# EAGLE library part NRJ6HF (library _mtvl.connectors)
Neutrik NRJ6HF Created by Nils Hintze <n.hintze@elektronikpage.net>
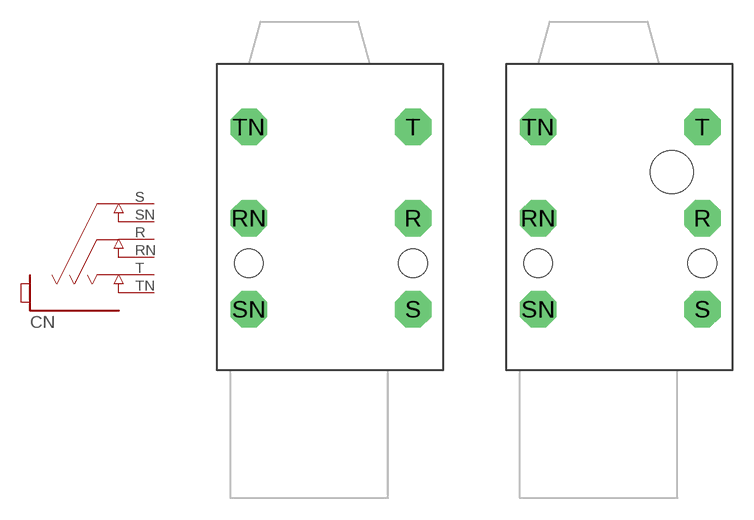
[diagram p25: symbol with the pads of NRJ6HF___; footprints NRJ6HF___, NRJ6HF_HOLE]

Designator prefix CN

## NRJ6HF  [NRJ6HF___]
R  R  pas
RN  RN  pas
S  S  pas
SN  SN  pas
T  T  pas
TN  TN  pas

## NRJ6HF_HOLE  [NRJ6HF_HOLE]
Pads as for NRJ6HF___

## Footprint NRJ6HF___ (pad centres in mm)
Neutrik NRJ6HF According to datasheet http://www.neutrik.de/zoolu-website/media/download/2840/Strichzeichnung+NRJ6HF. Created by Nils Hintze <n.hintze@elektronikpage.net>
drill 1.5 pad 2.54 octagon: R 7.23,10.6; RN -4.2,10.6; S 7.23,4.25; SN -4.2,4.25; T 7.23,16.95; TN -4.2,16.95
hole 2 at -4.2,7.45
hole 2 at 7.23,7.45

## Footprint NRJ6HF_HOLE (pad centres in mm)
Neutrik NRJ6HF with screw hole According to datasheet http://www.neutrik.de/zoolu-website/media/download/2840/Strichzeichnung+NRJ6HF. Created by Nils Hintze <n.hintze@elektronikpage.net>
drill 1.5 pad 2.54 octagon: R 7.23,10.6; RN -4.2,10.6; S 7.23,4.25; SN -4.2,4.25; T 7.23,16.95; TN -4.2,16.95
hole 3 at 5.1,13.8
hole 2 at -4.2,7.45
hole 2 at 7.23,7.45